# Altium footprint library RES_VAR_TE_CB10V.PcbLib: 1 footprints
Each footprint in its own frame and in the unit in brackets; x right, y up, seen from the top. Pads: shape width x height; smd on the part's side, far side on the other; paste and mask are expansions set on the pad; w line width, h text height; cw(c..) or ccw(c..) is an arc to the next point about the centre after c.
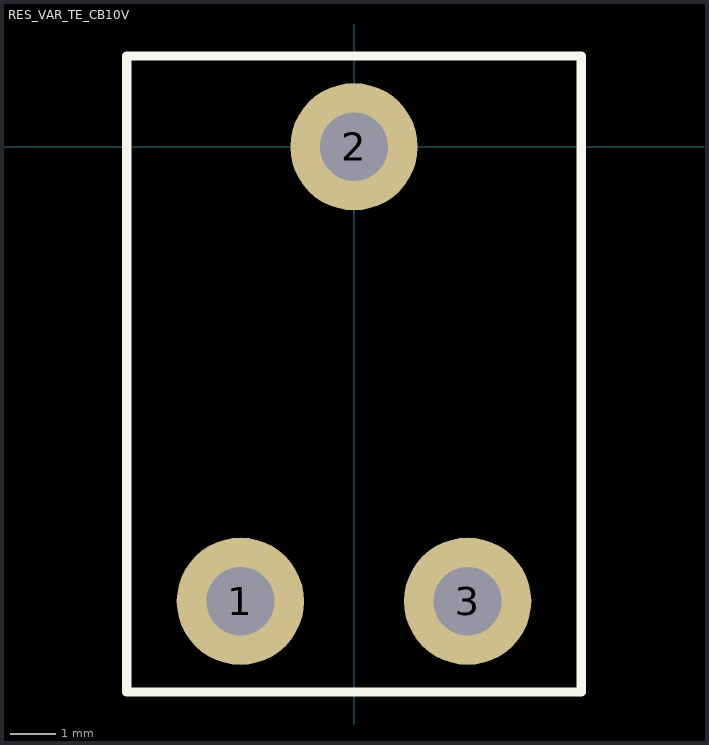
[diagram p0: the footprint, top view; thin cyan lines are the x and y axes]

## RES_VAR_TE_CB10V [mm]
pads (3):
  round 2.8 hole 1.5: 1(-2.5,-10) 2(0,0) 3(2.5,-10)
Top Overlay:
  lines w0.2: -5,-12 -5,2 5,2 5,-12 -5,-12